# EAGLE library part ACPL-790B (library ACPL-790b)
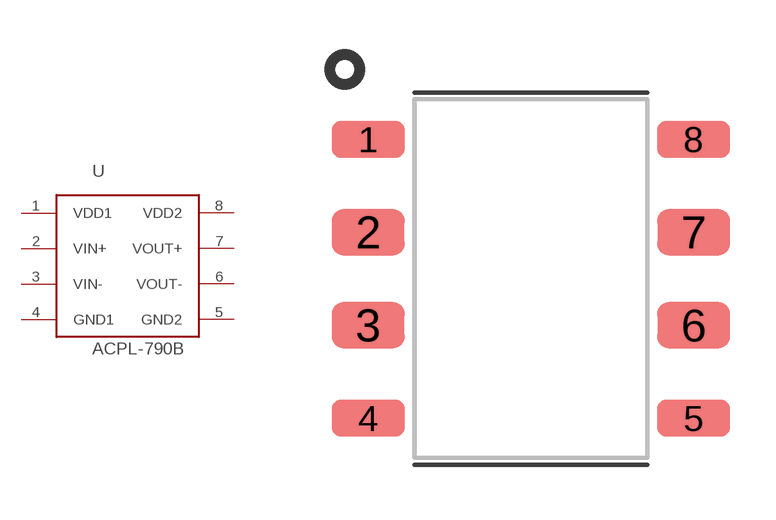
[diagram p0: symbol with the pads of DIP-8; footprint DIP-8]

Designator prefix -

## ACPL-790B  [DIP-8]
1  VDD1  pwr
2  VIN+  in
3  VIN-  in
4  GND1  pwr
5  GND2  pwr
6  VOUT-  out
7  VOUT+  out
8  VDD2  pwr

## Footprint DIP-8 (pad centres in mm)
smd 2 x 1.016: 1 -4.445,3.81; 4 -4.445,-3.81; 5 4.445,-3.81; 8 4.445,3.81
smd 2 x 1.27: 2 -4.445,1.27; 3 -4.445,-1.27; 6 4.445,-1.27; 7 4.445,1.27